# Altium footprint library JGEJ_V1.0.PcbLib: 19 footprints (part 1 of 2)
Each footprint in its own frame and in the unit in brackets; x right, y up, seen from the top. Pads: shape width x height; smd on the part's side, far side on the other; paste and mask are expansions set on the pad; w line width, h text height; cw(c..) or ccw(c..) is an arc to the next point about the centre after c.
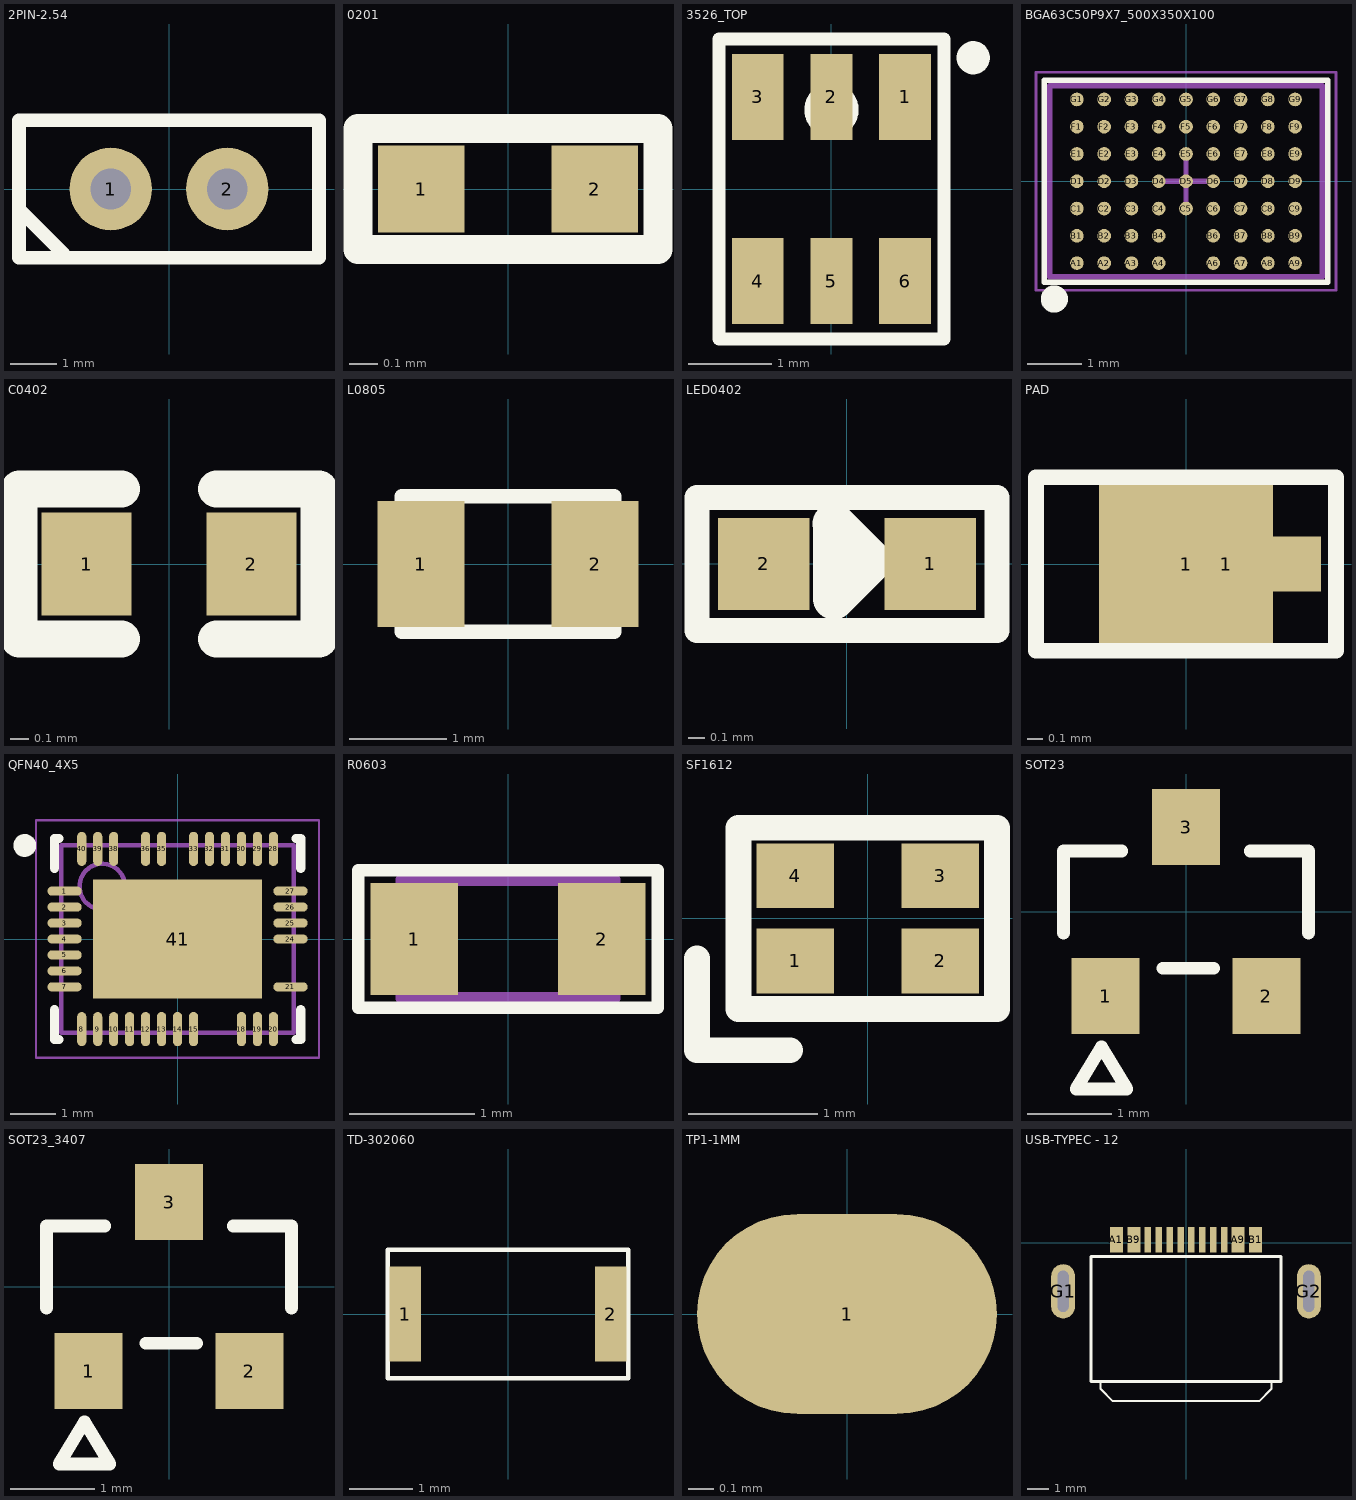
[diagram p0: the footprints below, top view; thin cyan lines are the x and y axes]

## 2PIN-2.54 [mm]
pads (2):
  round 1.8 hole 0.889: 1(-1.27,0) 2(1.27,0)
Top Overlay:
  lines w0.3: -3.2,-0.51 -2.31,-1.4 ; -3.27,-1.5 3.27,-1.5 3.27,1.5 -3.27,1.5 -3.27,-1.5

## 0201 [mm]
height 1
pads (2):
  rect 0.3x0.3 smd: 1(-0.3,0) 2(0.3,0)
Top Overlay:
  lines w0.1: -0.52,-0.21 -0.52,0.21 0.52,0.21 0.52,-0.21 -0.52,-0.21
3D body: height 0.3, standoff 0, extent -0.3,-0.153 0.3,0.147

## 3526_TOP [mm]
pads (6):
  rect 0.622x1.032 smd: 1(0.884,1.104) 3(-0.884,1.104) 4(-0.884,-1.104) 6(0.884,-1.104)
  rect 0.5x1.032 smd: 2(0,1.104) 5(0,-1.104)
Top Overlay:
  circle w0.254: c1.702,1.575 r0.072
  circle w0.152: c0,0.95 r0.25
  lines w0.152: -1.35,-1.8 1.35,-1.8 1.35,1.8 -1.35,1.8 -1.35,-1.8
3D body: height 0.96, standoff 0.05, extent -1.397,-1.778 1.397,1.778

## BGA63C50P9X7_500X350X100 [mm] "BGA, 63-Leads, Body 5.00x3.50mmx1.00mm, Pitch 0.50mm"
height 1
pads (61):
  round 0.25 smd: A1(-2,-1.5) A2(-1.5,-1.5) A3(-1,-1.5) A4(-0.5,-1.5) A6(0.5,-1.5) A7(1,-1.5) A8(1.5,-1.5) A9(2,-1.5) B1(-2,-1) B2(-1.5,-1) B3(-1,-1) B4(-0.5,-1) B6(0.5,-1) B7(1,-1) B8(1.5,-1) B9(2,-1) C1(-2,-0.5) C2(-1.5,-0.5) C3(-1,-0.5) C4(-0.5,-0.5) C5(0,-0.5) C6(0.5,-0.5) C7(1,-0.5) C8(1.5,-0.5) C9(2,-0.5) D1(-2,0) D2(-1.5,0) D3(-1,0) D4(-0.5,0) D5(0,0) D6(0.5,0) D7(1,0) D8(1.5,0) D9(2,0) E1(-2,0.5) E2(-1.5,0.5) E3(-1,0.5) E4(-0.5,0.5) E5(0,0.5) E6(0.5,0.5) E7(1,0.5) E8(1.5,0.5) E9(2,0.5) F1(-2,1) F2(-1.5,1) F3(-1,1) F4(-0.5,1) F5(0,1) F6(0.5,1) F7(1,1) F8(1.5,1) F9(2,1) G1(-2,1.5) G2(-1.5,1.5) G3(-1,1.5) G4(-0.5,1.5) G5(0,1.5) G6(0.5,1.5) G7(1,1.5) G8(1.5,1.5) G9(2,1.5)
Top Overlay:
  circle w0.25: c-2.413,-2.159 r0.125
  lines w0.1: -2.6,-1.85 -2.6,1.85 2.6,1.85 2.6,-1.85 -2.6,-1.85
Mechanical 13:
  lines w0.1: -2.5,-1.75 -2.5,1.75 2.5,1.75 2.5,-1.75 -2.5,-1.75
Mechanical 15:
  lines w0.05: -2.75,-2 2.75,-2 2.75,2 -2.75,2 -2.75,-2
  lines w0.1: -0.5,0 0.5,0 ; 0,-0.5 0,0.5
3D body: height 1, standoff 0.3, extent -2.5,-1.75 2.5,1.75

## C0402 [mm]
pads (2):
  rect 0.48x0.55 smd: 1(-0.44,0) 2(0.44,0)
Top Overlay:
  lines w0.2: -0.254,-0.4 -0.8,-0.4 -0.8,0.4 -0.254,0.4 ; 0.254,-0.4 0.8,-0.4 0.8,0.4 0.254,0.4
3D body: height 0.6, standoff 0.05, extent -0.762,-0.381 0.762,0.381

## L0805 [mm]
height 1
pads (2):
  rect 0.9x1.3 smd: 1(-0.9,0) 2(0.9,0)
Top Overlay:
  lines w0.15: -1.1,-0.7 1.1,-0.7 1.1,0.7 -1.1,0.7 -1.1,-0.7
3D body: height 0.78, standoff 0, extent -1,-0.63 1,0.62

## LED0402 [mm]
pads (2):
  rrect0% 0.55x0.55 smd: 1(0.5,0) 2(-0.5,0)
Top Overlay:
  lines w0.15: -0.9,-0.4 -0.9,0.4 0.9,0.4 0.9,-0.4 -0.9,-0.4
  lines w0.25: -0.081,0.242 -0.08,0.242 -0.08,-0.209 0.145,0.016 -0.081,0.242
3D body: height 0.6, standoff 0.05, extent -0.889,-0.381 0.889,0.381

## PAD [mm]
pads (2):
  rect 1.1x1 smd: 1(0,0)
  rect 1.2x0.35 smd: 1(0.254,0)
Top Overlay:
  lines w0.1: -0.95,-0.55 0.95,-0.55 0.95,0.55 -0.95,0.55 -0.95,-0.55
3D body: height 1.7, standoff 0.05, extent -0.889,-0.508 0.889,0.508

## QFN40_4X5 [mm] "QFN, 40-Leads, Body 5.00x4.00mm, Pitch 0.35mm, Thermal Pad 3.70x2.80mm, IPC Medium Density"
height 0.8
pads (35):
  oval 0.75x0.2 smd: 1(-2.475,1.05) 2(-2.475,0.7) 3(-2.475,0.35) 4(-2.475,0) 5(-2.475,-0.35) 6(-2.475,-0.7) 7(-2.475,-1.05) 21(2.475,-1.05) 24(2.475,0) 25(2.475,0.35) 26(2.475,0.7) 27(2.475,1.05)
  oval 0.2x0.75 smd: 8(-2.1,-1.975) 9(-1.75,-1.975) 10(-1.4,-1.975) 11(-1.05,-1.975) 12(-0.7,-1.975) 13(-0.35,-1.975) 14(0,-1.975) 15(0.35,-1.975) 18(1.4,-1.975) 19(1.75,-1.975) 20(2.1,-1.975) 28(2.1,1.975) 29(1.75,1.975) 30(1.4,1.975) 31(1.05,1.975) 32(0.7,1.975) 33(0.35,1.975) 35(-0.35,1.975) 36(-0.7,1.975) 38(-1.4,1.975) 39(-1.75,1.975) 40(-2.1,1.975)
  rect 3.7x2.6 smd: 41(0,0)
Top Overlay:
  circle w0.25: c-3.35,2.05 r0.125
  lines w0.2: -2.7,-1.55 -2.7,-2.2 -2.6,-2.2 ; -2.7,1.55 -2.7,2.2 -2.6,2.2 ; 2.6,-2.2 2.7,-2.2 2.7,-1.55 ; 2.6,2.2 2.7,2.2 2.7,1.55
Mechanical 13:
  circle w0.1: c-1.65,1.15 r0.5
  lines w0.1: -2.55,-2.05 2.55,-2.05 2.55,2.05 -2.55,2.05 -2.55,-2.05
Mechanical 15:
  lines w0.05: -3.1,-2.6 3.1,-2.6 3.1,2.6 -3.1,2.6 -3.1,-2.6
  lines w0.1: -0.5,0 0.5,0 ; 0,-0.5 0,0.5
3D body: height 0.8, standoff 0.02, extent -2.55,-2.05 2.55,2.05

## R0603 [mm]
pads (2):
  rect 0.7x0.9 smd: 1(-0.75,0) 2(0.75,0)
Top Overlay:
  lines w0.1: -1.2,-0.55 -1.2,0.55 1.2,0.55 1.2,-0.55 -1.2,-0.55
Mechanical 13:
  lines w0.1: -0.85,-0.475 -0.85,0.475 0.85,0.475 0.85,-0.475 -0.85,-0.475
3D body: height 0.9, standoff 0, extent -0.85,-0.475 0.85,0.475

## SF1612 [mm]
pads (4):
  rect 0.6x0.5 smd: 1(-0.56,-0.33) 2(0.56,-0.33) 3(0.56,0.33) 4(-0.56,0.33)
Top Overlay:
  lines w0.2: -1.32,-0.31 -1.32,-1.02 -0.6,-1.02 ; -1,-0.7 1,-0.7 1,0.7 -1,0.7 -1,-0.7
3D body: height 0.6, standoff 0.05, extent -1.016,-0.635 1.016,0.635

## SOT23 [mm]
pads (3):
  rect 0.8x0.9 smd: 1(-0.953,-1) 2(0.953,-1) 3(0,1)
Top Overlay:
  lines w0.15: -1.45,-0.254 -1.45,0.716 -0.762,0.716 ; -0.273,-0.67 0.327,-0.67 ; 0.762,0.716 1.45,0.716 1.45,-0.254 ; -1.3,-2.1 -0.7,-2.1 -1,-1.6 -1.3,-2.1

## SOT23_3407 [mm]
pads (3):
  rect 0.8x0.9 smd: 1(-0.953,-1) 2(0.953,-1) 3(0,1)
Top Overlay:
  lines w0.15: -1.45,-0.254 -1.45,0.716 -0.762,0.716 ; -0.273,-0.67 0.327,-0.67 ; 0.762,0.716 1.45,0.716 1.45,-0.254 ; -1.3,-2.1 -1,-1.6 -0.7,-2.1 -1.3,-2.1

## TD-302060 [mm]
pads (2):
  rect 0.5x1.5 smd: 1(-1.625,0) 2(1.625,0)
Top Overlay:
  lines w0.076: -1.905,-1.016 -1.905,1.016 1.905,1.016 1.905,-1.016 -1.905,-1.016
3D body: height 0.6, standoff 0.05, extent -1.75,-1 1.75,1

## TP1-1MM [mm]
height 1
pads (1):
  oval 1.2x0.8 smd: 1(0,0)

## USB-TYPEC - 12 [mm]
height 0.8
pads (14):
  rect 0.6x1.174 smd: A1(-3.2,0.152) A9(2.4,0.152) B1(3.2,0.152) B9(-2.4,0.152)
  rect 0.3x1.174 smd: A4(-1.75,0.152) A5(-1.25,0.152) A6(-0.25,0.152) A7(0.75,0.152) B4(1.75,0.152) B5(1.25,0.152) B6(0.25,0.152) B7(-0.75,0.152)
  oval 1.1x2.5 hole 0.5 slot 1.9 at 90 deg: G1(-5.65,-2.225) G2(5.65,-2.225)
Top Overlay:
  lines w0.1: -3.937,-6.375 -3.937,-6.713 -3.375,-7.275 3.375,-7.275 3.937,-6.713 3.937,-6.375
  lines w0.127: -4.375,-6.375 -4.375,-0.625 4.375,-0.625 4.375,-6.375 -4.375,-6.375